# Altium footprint library IGBT_2050C.PcbLib: 1 footprints
Each footprint in its own frame and in the unit in brackets; x right, y up, seen from the top. Pads: shape width x height; smd on the part's side, far side on the other; paste and mask are expansions set on the pad; w line width, h text height; cw(c..) or ccw(c..) is an arc to the next point about the centre after c.
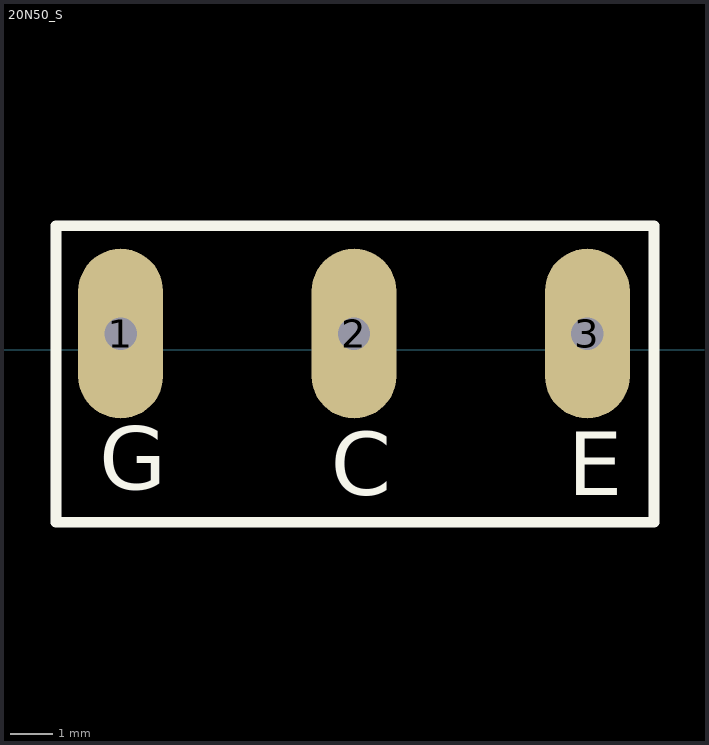
[diagram p0: the footprint, top view; thin cyan lines are the x and y axes]

## 20N50_S [mil]
pads (3):
  oval 78.74x157.48 hole 30: 1(330,15) 2(546.54,15) 3(763.07,15)
Top Overlay:
  lines w10: 270,-160 270,115 825,115 825,-160 270,-160
  text "G" at 310,-130 h59.06
  text "C" at 525,-135 h59.06
  text "E" at 745,-135 h59.06